# Altium schematic symbol library semiconductors.SchLib: 19 symbols
Pins are listed as number, name and electrical type; pins without a type are passive.

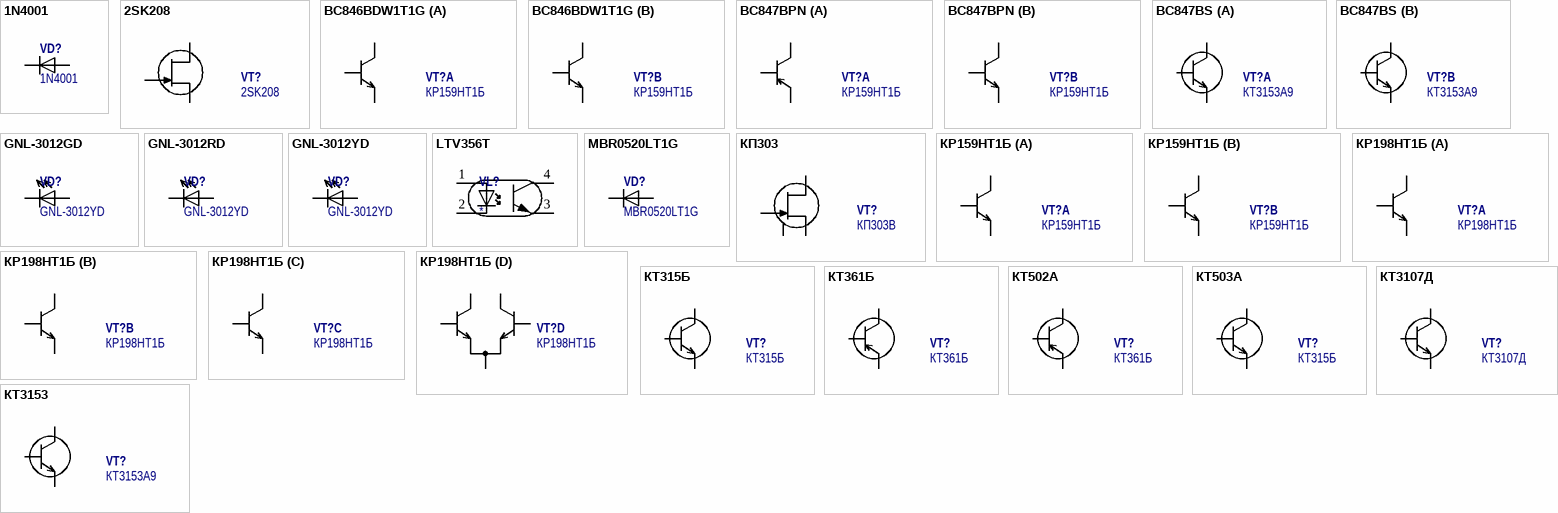
[diagram p0: symbols 1N4001 to КТ3153]

## 1N4001
designator VD?
name: Диод 1N4001; type: Диоды; def_comment: 1N4001
footprint D-015
pins: 1, 2

## 2SK208
designator VT?
N-транзистор; name: Транзистор 2SK208; type: Транзисторы; def_comment: 2SK208
footprint SOT95P230X110-3N (SOT23, 3-Leads, Body 2,90x2,30mm, Pitch 0,95mm, IPC Medium Density)
pins: 1 S, 2 D, 3 G

## BC846BDW1T1G
designator VT?, comment КР159НТ1Б
сборка 2 NPN-транзистора; name: Транзистор BC846BDW1T1G; type: Транзисторы; def_comment: КР159НТ1Б
footprint SOT65P210X110-6N (SOT23, 6-Leads, Body 2,00x2,10mm, Pitch 0,65mm, IPC Medium Density)
part A pins: 3 К, 4 Э, 5 Б
part B pins: 1 Э, 2 Б, 6 К

## BC847BPN
designator VT?, comment КР159НТ1Б
сборка PNP NPN-транзистора; name: Транзистор BC847BPN; type: Транзисторы; def_comment: КР159НТ1Б
footprint SOT65P210X110-6N (SOT23, 6-Leads, Body 2,00x2,10mm, Pitch 0,65mm, IPC Medium Density)
part A pins: 3 К, 4 Э, 5 Б
part B pins: 1 Э, 2 Б, 6 К

## BC847BS
designator VT?, comment КТ3153А9
NPN-транзистор; name: Транзистор BC847BS; type: Транзисторы; def_comment: КТ3153А9
footprint SOT65P210X110-6N (SOT23, 6-Leads, Body 2,00x2,10mm, Pitch 0,65mm, IPC Medium Density)
part A pins: 1 e1, 2 B1, 6 C1
part B pins: 3 C2, 4 e2, 5 B2

## GNL-3012GD
designator VD?, comment GNL-3012YD
желтый; name: Диод GNL-3012GD; type: Диоды; def_comment: GNL-3012YD
footprint GNL-3012GD
pins: 1, 2

## GNL-3012RD
designator VD?, comment GNL-3012YD
желтый; name: Диод GNL-3012RD; type: Диоды; def_comment: GNL-3012YD
footprint GNL-3012RD
pins: 1, 2

## GNL-3012YD
designator VD?
желтый; name: Диод GNL-3012YD; type: Диоды; def_comment: GNL-3012YD
footprint GNL-3012YD
pins: 1, 2

## LTV356T
designator VL?
def_comment: LTV356T; name: LTV356T; type: Оптрон Диодный
footprint SOP4
pins: 1 A, 2 K, 3 K, 4 K

## MBR0520LT1G
designator VD?
name: Диод MBR0520LT1G; type: Диоды; def_comment: MBR0520LT1G
footprint SODFL371X130-2N (SODFL, 2-Leads, Body 1,60x3,71mm, IPC Medium Density)
pins: 1, 2

## КП303
designator VT?, comment КП303В
полевой N транзистор; name: Транзистор КП303; type: Транзисторы; def_comment: КП303В
footprint k112
pins: 1 И, 2 С, 3 G, 4 E

## КР159НТ1Б
designator VT?
сборка 2 NPN-транзистора; name: Транзистор КР159НТ1Б; type: Транзисторы; def_comment: КР159НТ1Б
footprint DIP-8
part A pins: 2 К, 3 Б, 4 Э
part B pins: 5 Э, 6 Б, 7 К

## КР198НТ1Б
designator VT?
сборка 5 NPN-транзистора; name: Транзистор КР198НТ1Б; type: Транзисторы; def_comment: КР198НТ1Б
footprint DIP-14
part A pins: 1 К, 2 Э, 3 Б
part B pins: 4 К, 5 Э, 6 Б
part C pins: 7 К, 8 Э, 9 Б
part D pins: 10 К, 11 Б, 12 Э, 13 Б, 14 К

## КТ315Б
designator VT?
NPN-транзистор; name: Транзистор КТ315Б; type: Транзисторы; def_comment: КТ315Б
footprint TO-92
pins: 1 Э, 2 К, 3 Б

## КТ361Б
designator VT?
PNP-транзистор; name: Транзистор КТ361Б; type: Транзисторы; def_comment: КТ361Б
footprint TO-92
pins: 1 Э, 2 К, 3 Б

## КТ502А
designator VT?, comment КТ361Б
PNP-транзистор; name: Транзистор КТ502А; type: Транзисторы; def_comment: КТ361Б
footprint TO-92
pins: 1 К, 2 Б, 3 Э

## КТ503А
designator VT?, comment КТ315Б
NPN-транзистор; name: Транзистор КТ503А; type: Транзисторы; def_comment: КТ315Б
footprint TO-92
pins: 1 К, 2 Б, 3 Э

## КТ3107Д
designator VT?
NPN-транзистор; name: Транзистор КТ3107Д; type: Транзисторы; def_comment: КТ3107Д
footprint TO-92
pins: 1 К, 2 Б, 3 Э

## КТ3153
designator VT?, comment КТ3153А9
NPN-транзистор; name: Транзистор КТ3153А9; type: Транзисторы; def_comment: КТ3153А9
footprint SOT95P230X110-3N (SOT23, 3-Leads, Body 2,90x2,30mm, Pitch 0,95mm, IPC Medium Density)
pins: 1 G, 2 S, 3 D